# Altium schematic symbol library 3-644615-6.SchLib: 1 symbol
Pins are listed as number, name and electrical type; pins without a type are passive.

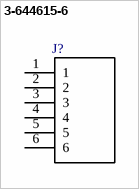
[diagram p0: symbol 3-644615-6]

## 3-644615-6
designator J?  (value not drawn)
6 Position 3.96 mm Male Pin Through Hole Straight Header Plug Connector; MF: TE Connectivity; Package: None; TE_purchase_URL: https://www.te.com/usa-en/product-3-644615-6.html?te_bu=Cor&te_type=disp&te_campaign=seda_glo_cor-seda-global-disp-prtnr-fy19-seda-model-bom-cta_sma-317_1&elqCampaignId=32493; EU_RoHS_Compliance: Compliant; Availability: Unavailable; SnapEDA_Link: https://www.snapeda.com/parts/3-644615-6/TE%20Connectivity%20AMP%20Connectors/view-part/?ref=snap; Price: None; MP: 3-644615-6; Value: *
footprint *TE_3-644615-6
pins: 1, 2, 3, 4, 5, 6